# Altium integrated library TLV9062IDDFR.IntLib: 2 symbols
Pins are listed as number, name and electrical type; pins without a type are passive.

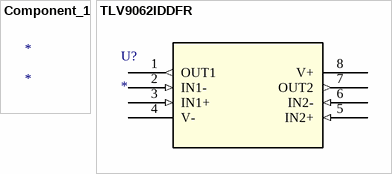
[diagram p0: symbols Component_1 to TLV9062IDDFR]

## Component_1
designator *

## TLV9062IDDFR
designator U?
No Description Available; Mfr_Name: Texas Instruments; RefDes: RefDes; Type: Type
footprint SOT_62IDDFR_TEX
pins: 1 OUT1 (out), 2 IN1- (in), 3 IN1+ (in), 4 V- (power), 5 IN2+ (in), 6 IN2- (in), 7 OUT2 (out), 8 V+ (power)